# Altium footprint library capacitor_smd.PcbLib: 120 footprints (part 7 of 8)
Each footprint in its own frame and in the unit in brackets; x right, y up, seen from the top. Pads: shape width x height; smd on the part's side, far side on the other; paste and mask are expansions set on the pad; w line width, h text height; cw(c..) or ccw(c..) is an arc to the next point about the centre after c.
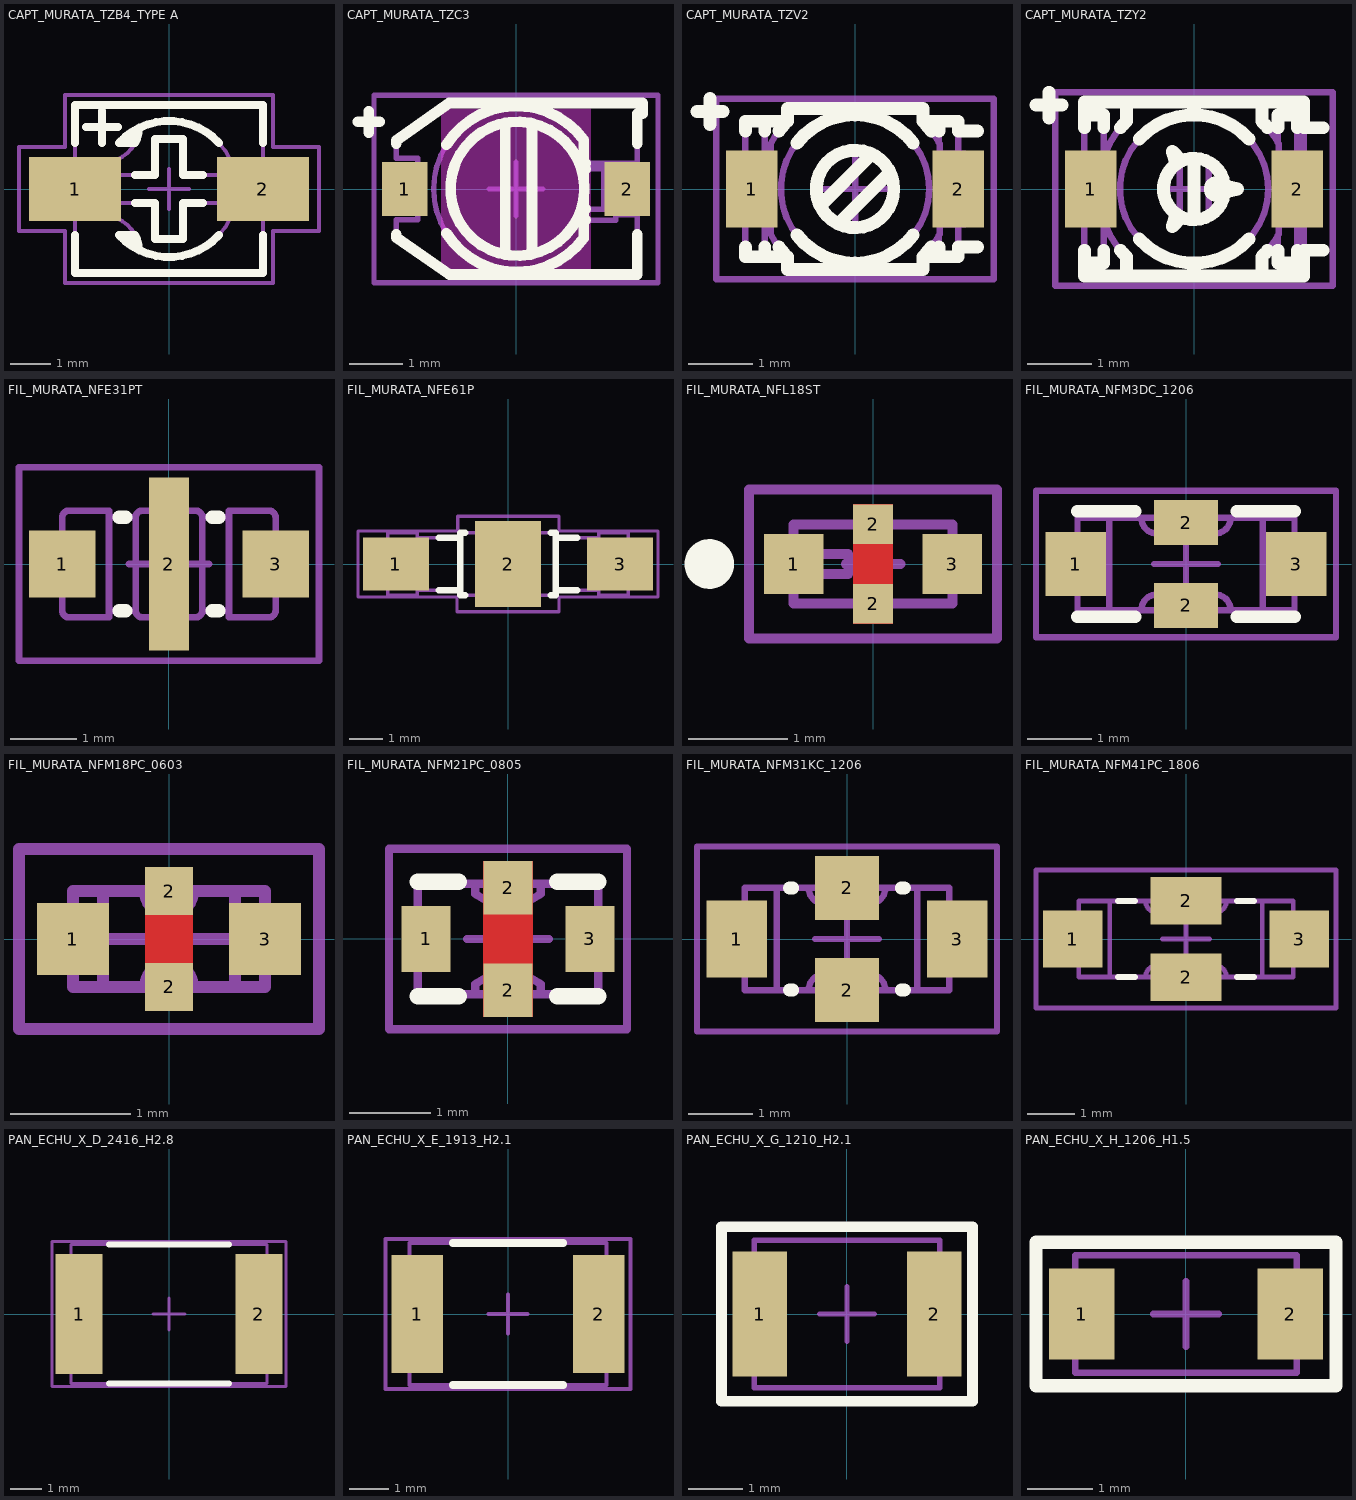
[diagram p6: the footprints below, top view; thin cyan lines are the x and y axes]

## CAPT_MURATA_TZB4_TYPE A [mm] "MURATA TZB4 Series, Ceramic Trimmer Capacitor, Body 4.5 x 4.2mm"
height 3.2
pads (2):
  rect 2.3x1.6 smd: 1(-2.35,0) 2(2.35,0)
Top Overlay:
  lines w0.2: -2.35,-1.15 -2.35,-2.1 2.35,-2.1 2.35,-1.15 ; -2.35,1.15 -2.35,2.1 2.35,2.1 2.35,1.15 ; -2.077,1.55 -1.277,1.55 ; -1.677,1.15 -1.677,1.95 ; -1.152,-1.25 -0.804,-1.25 ; -1.152,1.25 -0.804,1.25 ; -1.033,-1.35 -0.775,-1.35 ; -1.033,1.35 -0.775,1.35 ; -0.887,-1.45 -0.759,-1.45 ; -0.887,1.45 -0.759,1.45 ; -0.85,-0.35 -0.35,-0.35 -0.35,-1.25 0.35,-1.25 0.35,-0.35 0.85,-0.35 ; -0.85,0.35 -0.35,0.35 -0.35,1.25 0.35,1.25 0.35,0.35 0.85,0.35 ; -0.754,-1.523 ccw(c-1.615,-1.539) -0.847,-1.15 -1.252,-1.15 ccw(c0,0) 1.252,-1.15 ; -0.754,1.523 cw(c-1.615,1.539) -0.847,1.15 -1.252,1.15 cw(c0,0) 1.252,1.15
Mechanical 1:
  lines w0.1: -2.077,1.55 -1.277,1.55 ; -1.677,1.15 -1.677,1.95 ; -2.35,-2.1 -2.35,2.1 2.35,2.1 2.35,-2.1 -2.35,-2.1 ; -1.558,-0.681 cw(c0.062,0) -1.558,0.681 ccw(c-1.615,1.539) -0.754,1.523 cw(c0,0) -0.754,-1.523 ccw(c-1.615,-1.539) -1.558,-0.681 ; -1.25,-0.35 -1.25,0.35 -0.35,0.35 -0.35,1.25 0.35,1.25 0.35,0.35 1.25,0.35 1.25,-0.35 0.35,-0.35 0.35,-1.25 -0.35,-1.25 -0.35,-0.35 -1.25,-0.35
Mechanical 15:
  lines w0.1: -0.5,0 0,0 ; 0,-0.5 0,0 ; 0,0.5 0,0 ; 0.5,0 0,0 ; -3.75,-1.05 -2.6,-1.05 -2.6,-2.35 2.6,-2.35 2.6,-1.05 3.75,-1.05 3.75,1.05 2.6,1.05 2.6,2.35 -2.6,2.35 -2.6,1.05 -3.75,1.05 -3.75,-1.05
3D body "CAPV_MURATA_TZB4_TYPE A.stp": height 3.2, standoff 0, extent -2.5,-2.1 2.5,2.1

## CAPT_MURATA_TZC3 [mm] "MURATA TZC3 Serie, Ceramic Trimmer Capacitor, Body 3.2 x 4.5mm"
height 1.6
pads (2):
  rect 0.85x1 smd: 1(-2.075,0) 2(2.075,0)
Top Layer keep-out:
  rectangle: -1.4,-1.5 1.4,1.5
Top Overlay:
  circle w0.2: c0.026,0.005 r1.25
  lines w0.2: -2.95,1.254 -2.75,1.254 ; -2.75,1.054 -2.75,1.254 ; -2.75,1.454 -2.75,1.254 ; -2.55,1.254 -2.75,1.254 ; -2.238,-0.85 -2.238,-0.905 -1.242,-1.597 2.262,-1.597 2.262,-0.85 ; -2.238,0.85 -2.238,0.905 -1.247,1.603 2.362,1.603 2.362,1.403 2.262,1.403 2.262,0.85 ; -1.3,-0.825 ccw(c0.012,0) 1.262,-0.917 1.262,-0.177 ; -1.3,0.825 cw(c0.012,0) 1.262,0.917 1.262,0.187 ; -0.201,-1.224 -0.201,1.235 ; 0.299,-1.214 0.299,1.225 ; 1.262,-0.58 1.3,-0.58 ; 1.262,-0.375 1.3,-0.375 ; 1.262,0.375 1.3,0.375 ; 1.262,0.48 1.3,0.48
Mechanical 1:
  circle w0.1: c0.026,0.005 r1.25
  lines w0.1: -2.95,1.254 -2.75,1.254 ; -2.75,1.054 -2.75,1.254 ; -2.75,1.454 -2.75,1.254 ; -2.55,1.254 -2.75,1.254 ; -1.837,-0.375 -2.238,-0.375 -2.238,0.375 -1.837,0.375 ; -0.201,-1.224 -0.201,1.235 ; 0.299,-1.214 0.299,1.225 ; 1.262,-0.58 1.863,-0.58 1.863,-0.48 2.262,-0.48 2.262,-1.597 -1.242,-1.597 -2.238,-0.905 -2.238,-0.575 -1.837,-0.575 -1.837,0.575 -2.238,0.575 -2.238,0.905 -1.247,1.603 2.362,1.603 2.362,1.403 2.262,1.403 2.262,0.48 1.262,0.48 ; 1.262,-0.375 2.238,-0.375 2.238,0.375 1.262,0.375 ; 1.262,-0.177 1.262,-0.917 cw(c0.012,0) 1.262,0.917 1.262,0.187 ; 1.637,-0.375 1.637,0.375
Mechanical 15:
  lines w0.1: -0.5,0 0,0 ; 0,-0.5 0,0 ; 0,0.5 0,0 ; 0.5,0 0,0 ; -2.65,-1.75 2.65,-1.75 2.65,1.75 -2.65,1.75 -2.65,-1.75
3D body "CAPV_MURATA_TZC3.stp": height 1.6, standoff 0, extent -2.237,-1.596 2.363,1.604

## CAPT_MURATA_TZV2 [mm] "MURATA TZV2 Serie, Ceramic Trimmer Capacitor, Body 2.3 x 3.2mm"
height 1.45
pads (2):
  rect 0.8x1.2 smd: 1(-1.6,0) 2(1.6,0)
Top Overlay:
  circle w0.2: c0,0 r0.6
  lines w0.2: -2.45,1.2 -2.25,1.2 ; -2.25,1 -2.25,1.2 ; -2.25,1.4 -2.25,1.2 ; -2.05,1.2 -2.25,1.2 ; -1.7,-0.9 -1.7,-1.05 -1.05,-1.05 ; -1.7,0.9 -1.7,1.05 -1.05,1.05 ; -1.4,-1.05 -1.4,-0.9 ; -1.4,0.9 -1.4,1.05 ; -1.181,-0.9 ccw(c0,0) -1.05,-1.05 ; -1.181,0.9 cw(c0,0) -1.05,1.05 ; -0.9,-0.716 ccw(c0,0) 0.9,-0.716 ; -0.9,0.716 cw(c0,0) 0.9,0.716 ; -0.541,-0.259 0.259,0.541 ; -0.259,-0.541 0.541,0.259 ; 1.181,-0.9 cw(c0,0) 1.05,-1.05 ; 1.181,0.9 ccw(c0,0) 1.05,1.05 ; 1.3,-1.05 1.3,-0.9 ; 1.3,0.9 1.3,1.05 ; 1.9,-0.9 1.6,-0.9 1.6,-1.05 1.05,-1.05 ; 1.9,0.9 1.6,0.9 1.6,1.05 1.05,1.05 ; -1.05,-1.05 -1.05,-1.25 1.05,-1.25 1.05,-1.05 ; -1.05,1.05 -1.05,1.25 1.05,1.25 1.05,1.05
Mechanical 1:
  circle w0.1: c0,0 r1.15
  circle w0.1: c0,0 r0.6
  lines w0.1: -2.45,1.2 -2.25,1.2 ; -2.25,1 -2.25,1.2 ; -2.25,1.4 -2.25,1.2 ; -2.05,1.2 -2.25,1.2 ; -1.4,-1.05 -1.4,1.05 ; -0.541,-0.259 0.259,0.541 ; -0.259,-0.541 0.541,0.259 ; 1.3,-1.05 1.3,-0.718 ; 1.3,0.718 1.3,1.05 ; 1.6,-0.55 1.6,-1.05 1.05,-1.05 ; 1.6,0.55 1.6,1.05 1.05,1.05 ; -1.05,-1.05 cw(c0,0) -1.31,-0.7 -1.31,0.7 cw(c0,0) -1.05,1.05 ; -1.05,-1.05 -1.7,-1.05 -1.7,1.05 -1.05,1.05 ; -1.05,-1.05 -1.05,-1.25 1.05,-1.25 1.05,-1.05 ; -1.05,1.05 -1.05,1.25 1.05,1.25 1.05,1.05 ; 1.05,-1.05 ccw(c0,0) 1.31,-0.7 1.31,-0.55 1.7,-0.55 1.7,0.55 1.31,0.55 1.31,0.7 ccw(c0,0) 1.05,1.05
Mechanical 15:
  lines w0.1: -0.5,0 0,0 ; 0,-0.5 0,0 ; 0,0.5 0,0 ; 0.5,0 0,0 ; -2.15,-1.4 2.15,-1.4 2.15,1.4 -2.15,1.4 -2.15,-1.4
3D body "CAPV_MURATA_TZV2.stp": height 1.45, standoff 0, extent -1.7,-1.25 1.7,1.25

## CAPT_MURATA_TZY2 [mm] "MURATA TZY2 Serie, Ceramic Trimmer Capacitor, Body 2.5 x 3.2mm"
height 1.25
pads (2):
  rect 0.8x1.2 smd: 1(-1.6,0) 2(1.6,0)
Top Overlay:
  circle w0.2: c0,0 r0.475
  circle w0.2: c0.35,0 r0.1
  lines w0.2: -2.45,1.3 -2.25,1.3 ; -2.25,1.1 -2.25,1.3 ; -2.25,1.5 -2.25,1.3 ; -2.05,1.3 -2.25,1.3 ; -1.7,-1.15 -1.4,-1.15 -1.4,-0.95 ; -1.7,-0.95 -1.7,-1.35 1.7,-1.35 1.7,-0.95 2,-0.95 ; -1.7,0.95 -1.7,1.35 1.7,1.35 1.7,0.95 2,0.95 ; -1.7,1.15 -1.4,1.15 -1.4,0.95 ; -1.141,-0.95 ccw(c0,0) -1.05,-1.05 -1.05,-1.35 ; -1.141,0.95 cw(c0,0) -1.05,1.05 -1.05,1.35 ; -0.85,-0.775 ccw(c0,0) 0.85,-0.775 ; -0.85,0.775 cw(c0,0) 0.85,0.775 ; -0.279,-0.384 -0.337,-0.585 -0.193,-0.434 ; -0.279,0.384 -0.337,0.585 -0.193,0.434 ; 0,-0.418 0,0.418 ; 0.472,-0.05 0.675,0 0.472,0.05 ; 1.05,-1.35 1.05,-1.05 ccw(c0,0) 1.141,-0.95 ; 1.05,1.15 1.05,1.05 ; 1.05,1.35 1.05,1.05 ; 1.141,0.95 ccw(c0,0) 1.05,1.05 ; 1.3,-0.95 1.3,-1.15 1.6,-1.15 1.6,-0.95 ; 1.3,0.95 1.3,1.15 1.6,1.15 1.6,0.95
Mechanical 1:
  circle w0.1: c0.35,0 r0.1
  circle w0.1: c0,0 r0.475
  circle w0.1: c0,0 r1.15
  lines w0.1: -2.45,1.3 -2.25,1.3 ; -2.25,1.1 -2.25,1.3 ; -2.25,1.5 -2.25,1.3 ; -2.05,1.3 -2.25,1.3 ; -1.7,-1.15 -1.4,-1.15 -1.4,-0.495 ; -1.7,1.15 -1.4,1.15 -1.4,0.495 ; -1.05,-1.35 -1.05,-1.05 cw(c0,0) -1.05,1.05 -1.05,1.35 ; -0.279,-0.384 -0.337,-0.585 -0.193,-0.434 ; -0.279,0.384 -0.337,0.585 -0.193,0.434 ; -0.225,-0.418 -0.225,0.418 ; 0.225,-0.418 0.225,0.418 ; 0.472,-0.05 0.675,0 0.472,0.05 ; 1.05,-1.35 1.05,-1.05 ccw(c0,0) 1.31,-0.7 1.31,-0.55 1.7,-0.55 ; 1.05,1.15 1.05,1.05 ; 1.05,1.35 1.05,1.05 ; 1.3,-0.718 1.3,-1.15 1.6,-1.15 1.6,-0.55 ; 1.3,0.718 1.3,1.15 1.6,1.15 1.6,0.55 ; 1.7,0.55 1.31,0.55 1.31,0.7 ccw(c0,0) 1.05,1.05 ; -1.7,-1.35 1.7,-1.35 1.7,1.35 -1.7,1.35 -1.7,-1.35
Mechanical 15:
  lines w0.1: -0.5,0 0,0 ; 0,-0.5 0,0 ; 0,0.5 0,0 ; 0.5,0 0,0 ; -2.15,-1.5 -2.15,1.5 2.15,1.5 2.15,-1.5 -2.15,-1.5
3D body "CAPV_MURATA_TZY2.stp": height 1.25, standoff 0, extent -1.7,-1.35 1.7,1.35

## FIL_MURATA_NFE31PT [mm] "6A EMIFIL LC Combined Type for Large Current"
height 1.75
pads (3):
  rect 1x1 smd: 1(-1.6,0) 3(1.6,0)
  rect 0.6x2.6 smd: 2(0,0)
Top Overlay:
  lines w0.2: -0.75,-0.7 -0.65,-0.7 ; -0.75,0.7 -0.65,0.7 ; 0.65,-0.7 0.75,-0.7 ; 0.65,0.7 0.75,0.7
Mechanical 1:
  lines w0.1: -0.9,-0.7 -0.5,-0.7 ; -0.9,0.7 -0.5,0.7 ; 0.9,-0.7 0.5,-0.7 ; 0.9,0.7 0.5,0.7 ; -0.5,-0.7 ccw(c-0.4,-0.7) -0.4,-0.8 0.4,-0.8 ccw(c0.4,-0.7) 0.5,-0.7 ; -0.5,-0.7 -0.5,0.7 ; -0.5,0.7 cw(c-0.4,0.7) -0.4,0.8 0.4,0.8 cw(c0.4,0.7) 0.5,0.7 ; 0.5,-0.7 0.5,0.7 ; -1.6,-0.7 ccw(c-1.5,-0.7) -1.5,-0.8 -0.9,-0.8 -0.9,0.8 -1.5,0.8 ccw(c-1.5,0.7) -1.6,0.7 -1.6,-0.7 ; 0.9,-0.8 0.9,0.8 1.5,0.8 cw(c1.5,0.7) 1.6,0.7 1.6,-0.7 cw(c1.5,-0.7) 1.5,-0.8 0.9,-0.8
Mechanical 15:
  lines w0.1: -0.6,0 0,0 ; 0,-0.6 0,0 ; 0,0.6 0,0 ; 0.6,0 0,0 ; -2.25,-1.45 -2.25,1.45 2.251,1.45 2.251,-1.45 -2.25,-1.45
3D body "CAPC_MURATA_NFE31PT.stp": height 1.6, standoff 0, extent -1.6,-0.8 1.6,0.8

## FIL_MURATA_NFE61P [mm] "EMI Filter, Body 6.8mm X 1.6mm, MURATA NFE61P Serie"
height 1.9
pads (3):
  rect 2x1.6 smd: 1(-3.4,0) 3(3.4,0)
  rect 2x2.6 smd: 2(0,0)
Top Overlay:
  lines w0.2: -2.1,-0.8 -1.45,-0.8 ; -2.1,0.8 -1.45,0.8 ; -1.3,-0.95 -1.45,-0.95 -1.45,0.95 -1.3,0.95 ; 1.3,-0.95 1.45,-0.95 1.45,0.95 1.3,0.95 ; 1.45,-0.8 2.1,-0.8 ; 1.45,0.8 2.1,0.8
Mechanical 1:
  lines w0.1: -2.75,-0.8 -1.45,-0.8 ; -2.75,0.8 -1.45,0.8 ; 1.45,-0.8 2.75,-0.8 ; 1.45,0.8 2.75,0.8 ; -3.65,-0.95 -3.65,0.95 -2.75,0.95 -2.75,-0.95 -3.65,-0.95 ; -1.45,-0.95 1.45,-0.95 1.45,0.95 -1.45,0.95 -1.45,-0.95 ; 2.75,-0.95 2.75,0.95 3.65,0.95 3.65,-0.95 2.75,-0.95
Mechanical 15:
  lines w0.1: -0.5,0 0,0 ; 0,-0.5 0,0 ; 0,0.5 0,0 ; 0.5,0 0,0 ; -4.55,-1 -4.55,1 -1.525,1 -1.525,1.45 1.55,1.45 1.55,1 4.55,1 4.55,-1 1.55,-1 1.55,-1.45 -1.55,-1.45 -1.55,-1 -4.55,-1
3D body "CAPC_MURATA_NFE61P.stp": height 1.9, standoff 0, extent -3.65,-0.95 3.65,0.95

## FIL_MURATA_NFL18ST [mm] "EMIFIL Chip Capacitor, Body 1.6x0.8mm, MURATA NFL18ST Series"
height 0.7
pads (4):
  rect 0.6x0.6 smd: 1(-0.8,0) 3(0.8,0)
  rect 0.4x0.4 smd: 2(0,-0.4) 2(0,0.4)
Top Layer:
  region: -0.2,0.6 -0.2,-0.6 0.2,-0.6 0.2,0.6
Top Overlay:
  circle w0.25: c-1.65,0 r0.125
Mechanical 1:
  lines w0.1: -0.8,-0.4 -0.8,0.4 0.8,0.4 0.8,-0.4 -0.8,-0.4 ; -0.575,-0.1 -0.25,-0.1 -0.25,0.1 -0.575,0.1 -0.575,-0.1
Mechanical 15:
  lines w0.1: -0.275,0 0,0 ; 0,-0.275 0,0 ; 0,0.275 0,0 ; 0.275,0 0,0 ; -1.25,-0.75 1.25,-0.75 1.25,0.75 -1.25,0.75 -1.25,-0.75
3D body "CAPC_MURATA_NFL18ST.stp": height 0.7, standoff 0, extent -0.8,-0.4 0.8,0.4

## FIL_MURATA_NFM3DC_1206 [mm] "EMIFIL Chip Capacitor, Body 3.2x1.25mm, MURATA NFM3DC Serie"
height 0.9
pads (4):
  rect 0.95x1 smd: 1(-1.725,0) 3(1.725,0)
  rect 1x0.7 smd: 2(0,-0.65) 2(0,0.65)
Top Overlay:
  lines w0.2: -1.7,-0.825 -0.8,-0.825 ; -1.7,0.825 -0.8,0.825 ; 0.8,-0.825 1.7,-0.825 ; 0.8,0.825 1.7,0.825
Mechanical 1:
  lines w0.1: -1.2,-0.725 -1.2,0.725 ; -0.7,-0.725 cw(c-0.45,-0.725) -0.45,-0.475 0.45,-0.475 cw(c0.45,-0.725) 0.7,-0.725 ; -0.7,0.725 ccw(c-0.45,0.725) -0.45,0.475 0.45,0.475 ccw(c0.45,0.725) 0.7,0.725 ; 1.2,-0.725 1.2,0.725 ; -1.7,-0.725 -1.7,0.725 1.7,0.725 1.7,-0.725 -1.7,-0.725
Mechanical 15:
  lines w0.1: -0.5,0 0,0 ; 0,-0.5 0,0 ; 0,0.5 0,0 ; 0.5,0 0,0 ; -2.35,-1.15 -2.35,1.15 2.35,1.15 2.35,-1.15 -2.35,-1.15
3D body "CAPC_MURATA_NFM3DC_1206.stp": height 0.9, standoff 0, extent -1.7,-0.725 1.7,0.725

## FIL_MURATA_NFM18PC_0603 [mm] "EMIFIL Chip Capacitor, Body 1.6x0.8mm, MURATA NFM18PC Serie"
height 0.7
pads (4):
  rect 0.6x0.6 smd: 1(-0.8,0) 3(0.8,0)
  rect 0.4x0.4 smd: 2(0,-0.4) 2(0,0.4)
Top Layer:
  region: -0.2,0.6 0.2,0.6 0.2,-0.6 -0.2,-0.6
Mechanical 1:
  lines w0.1: -0.55,-0.4 -0.55,0.4 ; -0.2,-0.4 cw(c0,-0.4) 0.2,-0.4 ; -0.2,0.4 ccw(c0,0.4) 0.2,0.4 ; 0.55,-0.4 0.55,0.4 ; -0.8,-0.4 0.8,-0.4 0.8,0.4 -0.8,0.4 -0.8,-0.4
Mechanical 15:
  lines w0.1: -0.5,0 0,0 ; 0,-0.5 0,0 ; 0,0.5 0,0 ; 0.5,0 0,0 ; -1.25,-0.75 -1.25,0.75 1.25,0.75 1.25,-0.75 -1.25,-0.75
3D body "CAPC_MURATA_NFM18PC_0603.stp": height 0.7, standoff 0, extent -0.8,-0.4 0.8,0.4

## FIL_MURATA_NFM21PC_0805 [mm] "EMIFIL Chip Capacitor, Body 2.0x1.25mm, MURATA NFM21PC Serie"
height 0.95
pads (4):
  rect 0.6x0.8 smd: 1(-1,0) 3(1,0)
  rect 0.6x0.65 smd: 2(0,-0.625) 2(0,0.625)
Top Layer:
  region: -0.3,0.95 0.3,0.95 0.3,-0.95 -0.3,-0.95
Top Overlay:
  lines w0.2: -1.1,-0.7 -0.6,-0.7 ; -1.1,0.7 -0.6,0.7 ; 0.6,-0.7 1.1,-0.7 ; 0.6,0.7 1.1,0.7
Mechanical 1:
  lines w0.1: -1.1,-0.675 1.1,-0.675 1.1,0.675 -1.1,0.675 -1.1,-0.675 ; -0.4,-0.675 0.4,-0.675 0.4,-0.55 ccw(c0,-1.128) -0.4,-0.55 -0.4,-0.675 ; -0.4,0.55 ccw(c0,1.128) 0.4,0.55 0.4,0.675 -0.4,0.675 -0.4,0.55
Mechanical 15:
  lines w0.1: -0.5,0 0,0 ; 0,-0.5 0,0 ; 0,0.5 0,0 ; 0.5,0 0,0 ; -1.45,-1.1 1.45,-1.1 1.45,1.1 -1.45,1.1 -1.45,-1.1
3D body "CAPC_MURATA_NFM21PC_0805.stp": height 0.95, standoff 0, extent -1.1,-0.675 1.1,0.675

## FIL_MURATA_NFM31KC_1206 [mm] "EMIFIL Chip Capacitor, Body 3.2x1.6mm, MURATA NFM31KC Serie"
height 1.5
pads (4):
  rect 0.95x1.2 smd: 1(-1.725,0) 3(1.725,0)
  rect 1x1 smd: 2(0,-0.8) 2(0,0.8)
Top Overlay:
  lines w0.2: -0.9,-0.8 -0.85,-0.8 ; -0.9,0.8 -0.85,0.8 ; 0.85,-0.8 0.9,-0.8 ; 0.85,0.8 0.9,0.8
Mechanical 1:
  lines w0.1: -1.1,-0.8 -1.1,0.8 ; -0.6,-0.8 cw(c-0.35,-0.8) -0.35,-0.55 0.35,-0.55 cw(c0.35,-0.8) 0.6,-0.8 ; -0.6,0.8 ccw(c-0.35,0.8) -0.35,0.55 0.35,0.55 ccw(c0.35,0.8) 0.6,0.8 ; 1.1,-0.8 1.1,0.8 ; -1.6,-0.8 1.6,-0.8 1.6,0.8 -1.6,0.8 -1.6,-0.8
Mechanical 15:
  lines w0.1: -0.5,0 0,0 ; 0,-0.5 0,0 ; 0,0.5 0,0 ; 0.5,0 0,0 ; -2.35,-1.45 2.35,-1.45 2.35,1.45 -2.35,1.45 -2.35,-1.45
3D body "CAPC_MURATA_NFM31KC_1206.stp": height 1.5, standoff 0, extent -1.6,-0.805 1.6,0.805

## FIL_MURATA_NFM41PC_1806 [mm]
pads (4):
  rect 1.25x1.2 smd: 1(-2.375,0) 3(2.375,0)
  rect 1.5x1 smd: 2(0,-0.8) 2(0,0.8)
Top Overlay:
  lines w0.127: -1.43,-0.8 -1.07,-0.8 ; -1.43,0.8 -1.07,0.8 ; 1.07,-0.8 1.43,-0.8 ; 1.07,0.8 1.43,0.8
Top Paste:
  region: -1.75,-0.5 -2.75,-0.5 -2.75,0.5 -1.75,0.5
  region: 2.75,-0.5 1.75,-0.5 1.75,0.5 2.75,0.5
Top Solder:
  region: -1.75,-0.6 -3,-0.6 -3,0.6 -1.75,0.6
  region: 0.75,-1.3 -0.75,-1.3 -0.75,-0.3 0.75,-0.3
  region: 0.75,0.3 -0.75,0.3 -0.75,1.3 0.75,1.3
  region: 3,-0.6 1.75,-0.6 1.75,0.6 3,0.6
Mechanical 1:
  lines w0.1: -1.6,-0.8 -1.6,0.8 ; -0.85,-0.8 cw(c-0.6,-0.8) -0.6,-0.55 0.6,-0.55 cw(c0.6,-0.8) 0.85,-0.8 ; -0.85,0.8 ccw(c-0.6,0.8) -0.6,0.55 0.6,0.55 ccw(c0.6,0.8) 0.85,0.8 ; 1.6,-0.8 1.6,0.8 ; -2.25,-0.8 2.25,-0.8 2.25,0.8 -2.25,0.8 -2.25,-0.8
Mechanical 15:
  lines w0.1: -0.5,0 0,0 ; 0,-0.5 0,0 ; 0,0.5 0,0 ; 0.5,0 0,0 ; -3.15,-1.45 -3.15,1.45 3.15,1.45 3.15,-1.45 -3.15,-1.45
3D body "User Library-Murata_NFM41P.STEP": height 1, standoff 0, extent -2.25,-0.8 2.25,0.8

## PAN_ECHU_X_D_2416_H2.8 [mm]
height 2.8
pads (2):
  rect 1.5x3.8 smd: 1(-2.85,0) 2(2.85,0)
Top Overlay:
  lines w0.2: -1.9,-2.2 1.9,-2.2 ; -1.9,2.2 1.9,2.2
Mechanical 1:
  lines w0.1: -3.1,-2.2 3.1,-2.2 3.1,2.2 -3.1,2.2 -3.1,-2.2
Mechanical 15:
  lines w0.1: -0.5,0 0.5,0 ; 0,-0.5 0,0.5 ; -3.7,-2.3 3.7,-2.3 3.7,2.3 -3.7,2.3 -3.7,-2.3
3D body: height 2.8, standoff 0, extent 2.3,-2.2 3.1,2.2
3D body: height 2.8, standoff 0, extent -3.1,-2.2 -2.3,2.2
3D body: height 2.8, standoff 0, extent -2.3,-2.2 2.3,2.2

## PAN_ECHU_X_E_1913_H2.1 [mm]
height 2.1
pads (2):
  rect 1.3x3 smd: 1(-2.3,0) 2(2.3,0)
Top Overlay:
  lines w0.2: -1.4,-1.8 1.4,-1.8 ; -1.4,1.8 1.4,1.8
Mechanical 1:
  lines w0.1: -2.5,-1.8 2.5,-1.8 2.5,1.8 -2.5,1.8 -2.5,-1.8
Mechanical 15:
  lines w0.1: -0.5,0 0.5,0 ; 0,-0.5 0,0.5 ; -3.1,-1.9 3.1,-1.9 3.1,1.9 -3.1,1.9 -3.1,-1.9
3D body: height 2.1, standoff 0, extent 1.7,-1.8 2.5,1.8
3D body: height 2.1, standoff 0, extent -2.5,-1.8 -1.7,1.8
3D body: height 2.1, standoff 0, extent -1.7,-1.8 1.7,1.8

## PAN_ECHU_X_G_1210_H2.1 [mm]
height 2.1
pads (2):
  rect 1x2.3 smd: 1(-1.6,0) 2(1.6,0)
Top Overlay:
  lines w0.2: -2.3,-1.6 2.3,-1.6 2.3,1.6 -2.3,1.6 -2.3,-1.6
Mechanical 1:
  lines w0.1: -1.7,-1.35 -1.7,1.35 1.7,1.35 1.7,-1.35 -1.7,-1.35
Mechanical 15:
  lines w0.1: -0.5,0 0.5,0 ; 0,-0.5 0,0.5 ; -2.3,-1.6 -2.3,1.6 2.3,1.6 2.3,-1.6 -2.3,-1.6
3D body: height 2.1, standoff 0, extent -1.05,-1.35 1.05,1.35
3D body: height 2.1, standoff 0, extent -1.7,-1.35 -1.05,1.35
3D body: height 2.1, standoff 0, extent 1.05,-1.35 1.7,1.35

## PAN_ECHU_X_H_1206_H1.5 [mm]
height 1.5
pads (2):
  rect 1x1.4 smd: 1(-1.6,0) 2(1.6,0)
Top Overlay:
  lines w0.2: -2.3,-1.1 2.3,-1.1 2.3,1.1 -2.3,1.1 -2.3,-1.1
Mechanical 1:
  lines w0.1: -1.7,-0.9 1.7,-0.9 1.7,0.9 -1.7,0.9 -1.7,-0.9
Mechanical 15:
  lines w0.1: -0.5,0 0.5,0 ; 0,-0.5 0,0.5 ; -2.3,-1.1 2.3,-1.1 2.3,1.1 -2.3,1.1 -2.3,-1.1
3D body: height 1.5, standoff 0, extent 1.05,-0.9 1.7,0.9
3D body: height 1.5, standoff 0, extent -1.7,-0.9 -1.05,0.9
3D body: height 1.5, standoff 0, extent -1.05,-0.9 1.05,0.9